# EAGLE library part EM4097 (library emmicro)
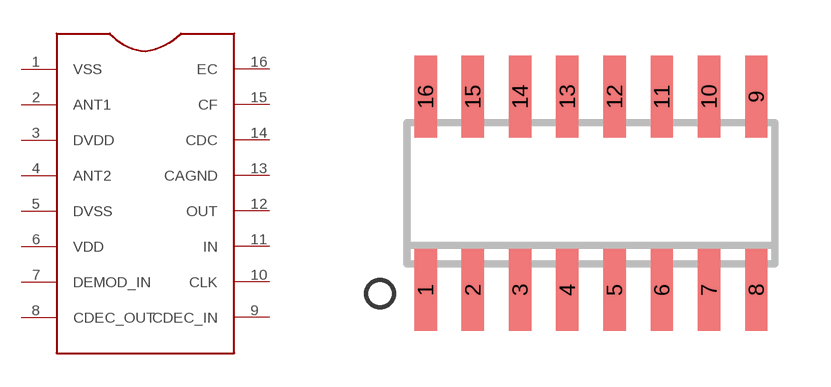
[diagram p0: symbol with the pads of SO16; footprint SO16]

Designator prefix -

## EM4097  [SO16]
1  VSS
2  ANT1
3  DVDD
4  ANT2
5  DVSS
6  VDD
7  DEMOD_IN
8  CDEC_OUT
9  CDEC_IN
10  CLK
11  IN
12  OUT
13  CAGND
14  CDC
15  CF
16  EC

## Footprint SO16 (pad centres in mm)
smd 0.6 x 2.2: 1 -3.175,-2.6; 2 -1.905,-2.6; 3 -0.635,-2.6; 4 0.635,-2.6; 5 1.905,-2.6; 6 3.175,-2.6; 7 4.445,-2.6; 8 5.715,-2.6; 9 5.715,2.6; 10 4.445,2.6; 11 3.175,2.6; 12 1.905,2.6; 13 0.635,2.6; 14 -0.635,2.6; 15 -1.905,2.6; 16 -3.175,2.6